# EAGLE library part 8PIN_HEADER (library 433_lib)
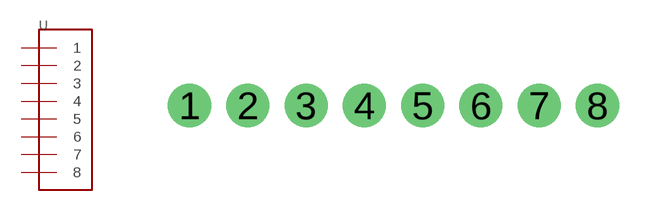
[diagram p2: symbol with the pads of 8PIN_HEADER; footprint 8PIN_HEADER]

Designator prefix -

## 8PIN_HEADER  [8PIN_HEADER]
1  1
2  2
3  3
4  4
5  5
6  6
7  7
8  8

## Footprint 8PIN_HEADER (pad centres in mm)
Plated Through Hole -8 Pin No Silk Specifications: Pin count:8 Pin pitch:0.1" Example device(s): CONN_08
drill 1.016 pad 1.88: 1 0,0; 2 2.54,0; 3 5.08,0; 4 7.62,0; 5 10.16,0; 6 12.7,0; 7 15.24,0; 8 17.78,0